# EAGLE library part INDN602 (library CasaLibrary)
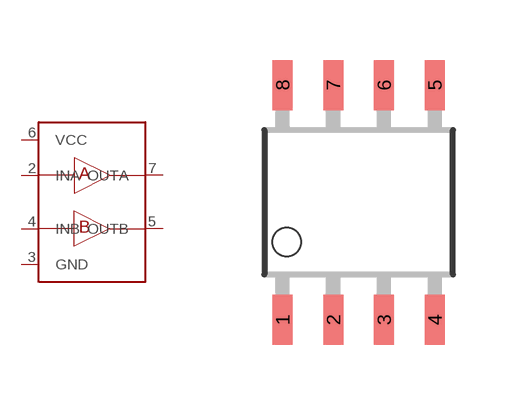
[diagram p24: symbol with the pads of SO08; footprint SO08]

Designator prefix -

## INDN602  [SO08]
2  INA
3  GND
4  INB
5  OUTB
6  VCC
7  OUTA

## Footprint SO08 (pad centres in mm)
Small Outline Package
smd 0.5 x 1.25: 1 -1.905,-2.934; 2 -0.635,-2.934; 3 0.635,-2.934; 4 1.905,-2.934; 5 1.905,2.934; 6 0.635,2.934; 7 -0.635,2.934; 8 -1.905,2.934